# Altium schematic symbol library BMX055-LGA20.SchLib: 1 symbol
Pins are listed as number, name and electrical type; pins without a type are passive.

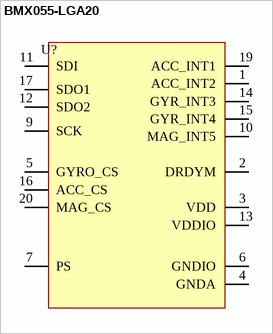
[diagram p0: symbol BMX055-LGA20]

## BMX055-LGA20
designator U?  (value not drawn)
pins: 1 ACC_INT2, 2 DRDYM, 3 VDD, 4 GNDA, 5 GYRO_CS, 6 GNDIO, 7 PS, 9 SCK, 10 MAG_INT5, 11 SDI, 12 SDO2, 13 VDDIO, 14 GYR_INT3, 15 GYR_INT4, 16 ACC_CS, 17 SDO1, 19 ACC_INT1, 20 MAG_CS